# Altium schematic symbol library FPGA Altera Intel.SchLib: 2 symbols
Pins are listed as number, name and electrical type; pins without a type are passive.

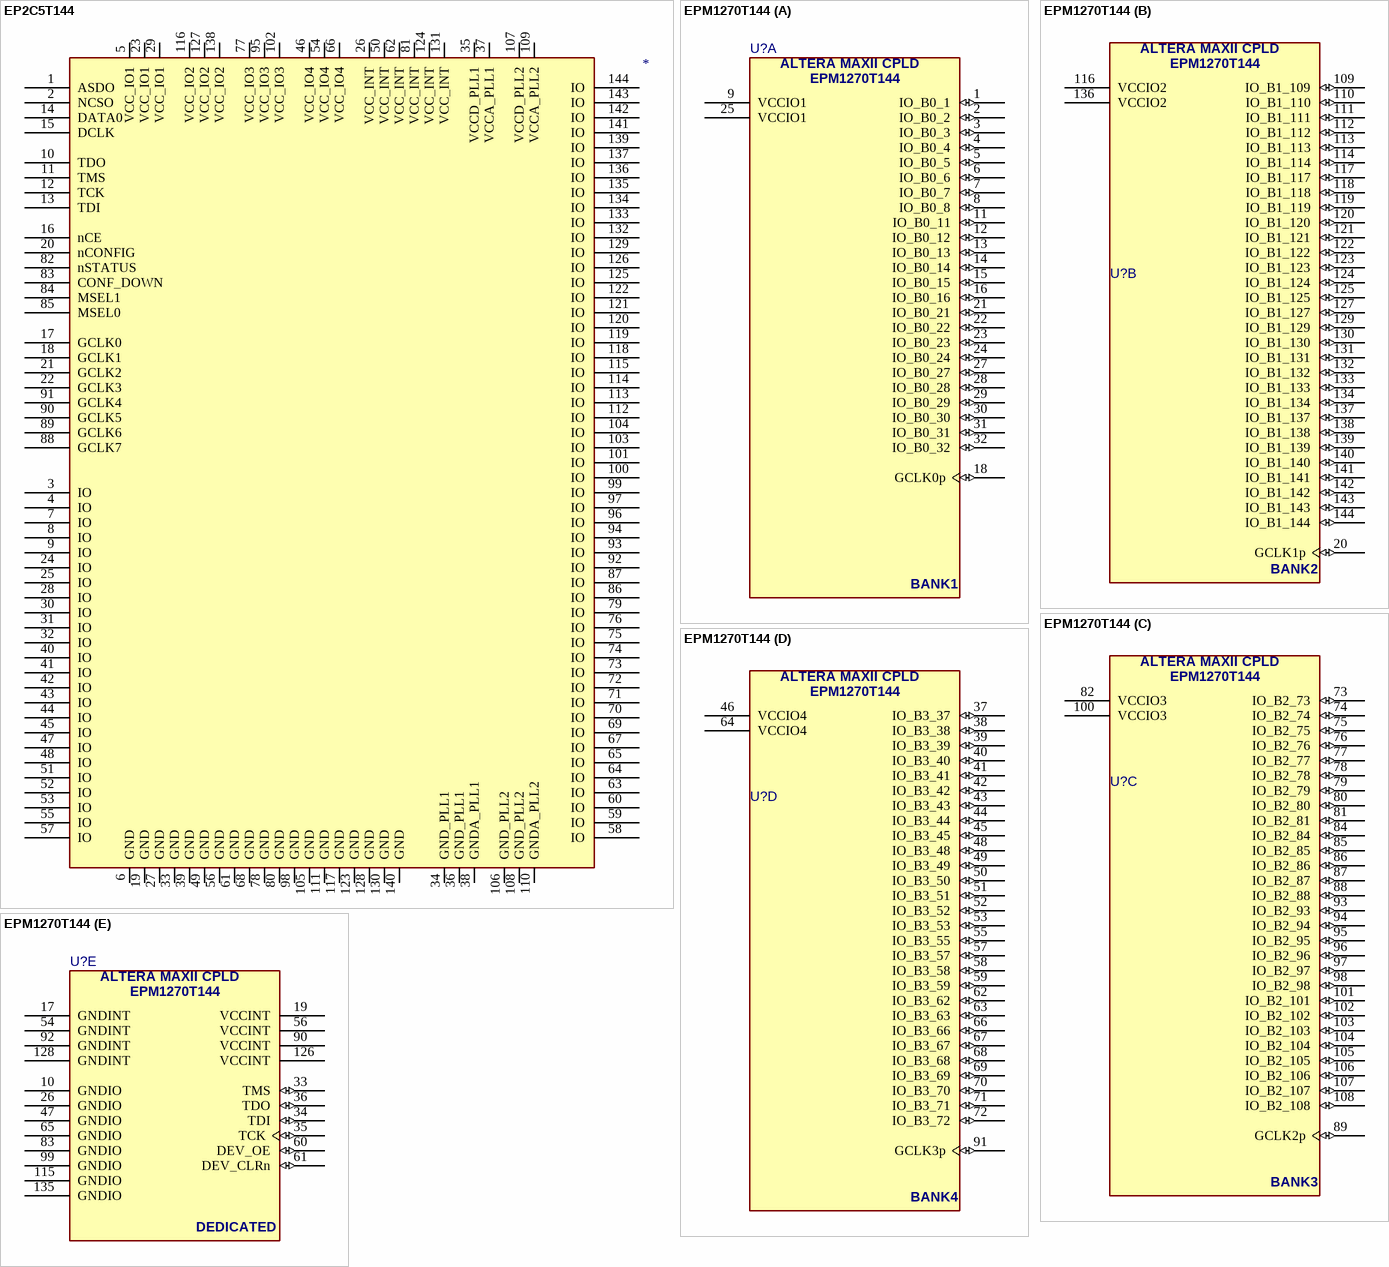
[diagram p0: symbols EP2C5T144 to EPM1270T144]

## EP2C5T144
designator ?
FPGA; MANF: ALTERA; MANF_P#: EP2C5T144; VALUE: EP2C5T144; ASSEMBLY: ASSEMBLY
pins: 1 ASDO, 2 NCSO, 3 IO, 4 IO, 5 VCC_IO1, 6 GND, 7 IO, 8 IO, 9 IO, 10 TDO, 11 TMS, 12 TCK, 13 TDI, 14 DATA0, 15 DCLK, 16 nCE, 17 GCLK0, 18 GCLK1, 19 GND, 20 nCONFIG, 21 GCLK2, 22 GCLK3, 23 VCC_IO1, 24 IO, 25 IO, 26 VCC_INT, 27 GND, 28 IO, 29 VCC_IO1, 30 IO, 31 IO, 32 IO, 33 GND, 34 GND_PLL1, 35 VCCD_PLL1, 36 GND_PLL1, 37 VCCA_PLL1, 38 GNDA_PLL1, 39 GND, 40 IO, 41 IO, 42 IO, 43 IO, 44 IO, 45 IO, 46 VCC_IO4, 47 IO, 48 IO, 49 GND, 50 VCC_INT, 51 IO, 52 IO, 53 IO, 54 VCC_IO4, 55 IO, 56 GND, 57 IO, 58 IO, 59 IO, 60 IO, 61 GND, 62 VCC_INT, 63 IO, 64 IO, 65 IO, 66 VCC_IO4, 67 IO, 68 GND, 69 IO, 70 IO, 71 IO, 72 IO, 73 IO, 74 IO, 75 IO, 76 IO, 77 VCC_IO3, 78 GND, 79 IO, 80 GND, 81 VCC_INT, 82 nSTATUS, 83 CONF_DOWN, 84 MSEL1, 85 MSEL0, 86 IO, 87 IO, 88 GCLK7, 89 GCLK6, 90 GCLK5, 91 GCLK4, 92 IO, 93 IO, 94 IO, 95 VCC_IO3, 96 IO, 97 IO, 98 GND, 99 IO, 100 IO, 101 IO, 102 VCC_IO3, 103 IO, 104 IO, 105 GND, 106 GND_PLL2, 107 VCCD_PLL2, 108 GND_PLL2, 109 VCCA_PLL2, 110 GNDA_PLL2, 111 GND, 112 IO, 113 IO, 114 IO, 115 IO, 116 VCC_IO2, 117 GND, 118 IO, 119 IO, 120 IO, 121 IO, 122 IO, 123 GND, 124 VCC_INT, 125 IO, 126 IO, 127 VCC_IO2, 128 GND, 129 IO, 130 GND, 131 VCC_INT, 132 IO, 133 IO, 134 IO, 135 IO, 136 IO, 137 IO, 138 VCC_IO2, 139 IO, 140 GND, 141 IO, 142 IO, 143 IO, 144 IO

## EPM1270T144
designator U?, comment EPM1270  (value not drawn)
IC, CPLD, MAXII,; MANF: ALTERA; MANF_P#: EPM1270T144; PARAM2: 2.5/3.3VCCINT, 1.5/1.8/2.5/3.3VIO; Date: Oct 26 2004; VALUE: EPM1270
footprint QFG50_144 (LQFP144, TQFP144, A144 (Cypress), HT144/TQ144 TQG144 (Xilinx), MS-026, MO-136(JEDEC), LQFP PGE, 20X20mm, Pitch 0.50mm, HT144, HTG144)
part A pins: 1 IO_B0_1 (io), 2 IO_B0_2 (io), 3 IO_B0_3 (io), 4 IO_B0_4 (io), 5 IO_B0_5 (io), 6 IO_B0_6 (io), 7 IO_B0_7 (io), 8 IO_B0_8 (io), 9 VCCIO1 (power), 11 IO_B0_11 (io), 12 IO_B0_12 (io), 13 IO_B0_13 (io), 14 IO_B0_14 (io), 15 IO_B0_15 (io), 16 IO_B0_16 (io), 18 GCLK0p (io), 21 IO_B0_21 (io), 22 IO_B0_22 (io), 23 IO_B0_23 (io), 24 IO_B0_24 (io), 25 VCCIO1 (power), 27 IO_B0_27 (io), 28 IO_B0_28 (io), 29 IO_B0_29 (io), 30 IO_B0_30 (io), 31 IO_B0_31 (io), 32 IO_B0_32 (io)
part B pins: 20 GCLK1p (io), 109 IO_B1_109 (io), 110 IO_B1_110 (io), 111 IO_B1_111 (io), 112 IO_B1_112 (io), 113 IO_B1_113 (io), 114 IO_B1_114 (io), 116 VCCIO2 (power), 117 IO_B1_117 (io), 118 IO_B1_118 (io), 119 IO_B1_119 (io), 120 IO_B1_120 (io), 121 IO_B1_121 (io), 122 IO_B1_122 (io), 123 IO_B1_123 (io), 124 IO_B1_124 (io), 125 IO_B1_125 (io), 127 IO_B1_127 (io), 129 IO_B1_129 (io), 130 IO_B1_130 (io), 131 IO_B1_131 (io), 132 IO_B1_132 (io), 133 IO_B1_133 (io), 134 IO_B1_134 (io), 136 VCCIO2 (power), 137 IO_B1_137 (io), 138 IO_B1_138 (io), 139 IO_B1_139 (io), 140 IO_B1_140 (io), 141 IO_B1_141 (io), 142 IO_B1_142 (io), 143 IO_B1_143 (io), 144 IO_B1_144 (io)
part C pins: 73 IO_B2_73 (io), 74 IO_B2_74 (io), 75 IO_B2_75 (io), 76 IO_B2_76 (io), 77 IO_B2_77 (io), 78 IO_B2_78 (io), 79 IO_B2_79 (io), 80 IO_B2_80 (io), 81 IO_B2_81 (io), 82 VCCIO3 (power), 84 IO_B2_84 (io), 85 IO_B2_85 (io), 86 IO_B2_86 (io), 87 IO_B2_87 (io), 88 IO_B2_88 (io), 89 GCLK2p (io), 93 IO_B2_93 (io), 94 IO_B2_94 (io), 95 IO_B2_95 (io), 96 IO_B2_96 (io), 97 IO_B2_97 (io), 98 IO_B2_98 (io), 100 VCCIO3 (power), 101 IO_B2_101 (io), 102 IO_B2_102 (io), 103 IO_B2_103 (io), 104 IO_B2_104 (io), 105 IO_B2_105 (io), 106 IO_B2_106 (io), 107 IO_B2_107 (io), 108 IO_B2_108 (io)
part D pins: 37 IO_B3_37 (io), 38 IO_B3_38 (io), 39 IO_B3_39 (io), 40 IO_B3_40 (io), 41 IO_B3_41 (io), 42 IO_B3_42 (io), 43 IO_B3_43 (io), 44 IO_B3_44 (io), 45 IO_B3_45 (io), 46 VCCIO4 (power), 48 IO_B3_48 (io), 49 IO_B3_49 (io), 50 IO_B3_50 (io), 51 IO_B3_51 (io), 52 IO_B3_52 (io), 53 IO_B3_53 (io), 55 IO_B3_55 (io), 57 IO_B3_57 (io), 58 IO_B3_58 (io), 59 IO_B3_59 (io), 62 IO_B3_62 (io), 63 IO_B3_63 (io), 64 VCCIO4 (power), 66 IO_B3_66 (io), 67 IO_B3_67 (io), 68 IO_B3_68 (io), 69 IO_B3_69 (io), 70 IO_B3_70 (io), 71 IO_B3_71 (io), 72 IO_B3_72 (io), 91 GCLK3p (io)
part E pins: 10 GNDIO (power), 17 GNDINT (power), 19 VCCINT (power), 26 GNDIO (power), 33 TMS (io), 34 TDI (io), 35 TCK (io), 36 TDO (io), 47 GNDIO (power), 54 GNDINT (power), 56 VCCINT (power), 60 DEV_OE (io), 61 DEV_CLRn (io), 65 GNDIO (power), 83 GNDIO (power), 90 VCCINT (power), 92 GNDINT (power), 99 GNDIO (power), 115 GNDIO (power), 126 VCCINT (power), 128 GNDINT (power), 135 GNDIO (power)
part A text: ALTERA MAXII CPLD; BANK1
part B text: ALTERA MAXII CPLD; BANK2
part C text: ALTERA MAXII CPLD; BANK3
part D text: ALTERA MAXII CPLD; BANK4
part E text: ALTERA MAXII CPLD; DEDICATED